# EAGLE library part 1X7 (library .standardheaders)
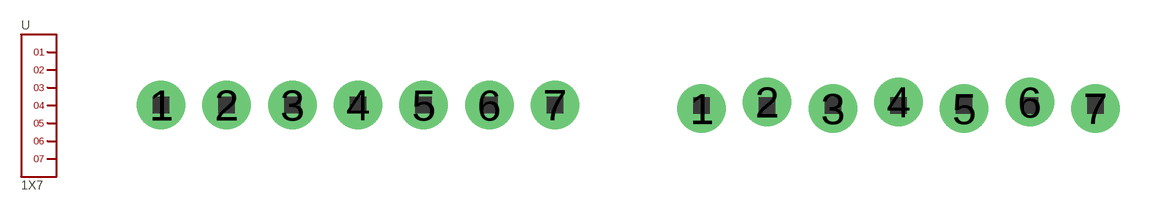
[diagram p1: symbol with the pads of 1X7; footprints 1X7, 1X7.LOCK]

Designator prefix -

## 1X7  [1X7]
1  1
2  2
3  3
4  4
5  5
6  6
7  7

## 1X7.LOCK  [1X7.LOCK]
Pads as for 1X7

## 1X7.SIDE  [1X7.SIDE]
Pads as for 1X7

## Footprint 1X7 (pad centres in mm)
drill 1.016 pad 1.88: 1 0,0; 2 2.54,0; 3 5.08,0; 4 7.62,0; 5 10.16,0; 6 12.7,0; 7 15.24,0

## Footprint 1X7.LOCK (pad centres in mm)
drill 1.016 pad 1.88: 1 0,-0.127; 2 2.54,0.127; 3 5.08,-0.127; 4 7.62,0.127; 5 10.16,-0.127; 6 12.7,0.127; 7 15.24,-0.127

## Footprint 1X7.SIDE (pad centres in mm)
smd 1.905 x 2.54: 1 0,-2.159; 2 2.54,-2.159; 3 5.08,-2.159; 4 7.62,-2.159; 5 10.16,-2.159; 6 12.7,-2.159; 7 15.24,-2.159